# Altium integrated library DG419LEDY-T1-GE4.IntLib: 1 symbol
Pins are listed as number, name and electrical type; pins without a type are passive.

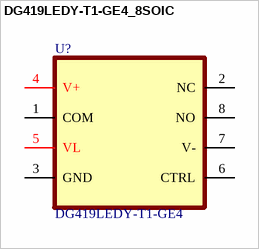
[diagram p0: symbol DG419LEDY-T1-GE4_8SOIC]

## DG419LEDY-T1-GE4_8SOIC
designator U?, comment DG419LEDY-T1-GE4
1 Circuit IC Switch 1:1; Value: DG419LEDY-T1-GE4
footprint SO8-5.5x6.5 (SOIC, 8-Leads, Body 6.5x5.6mm (max), Pitch 1.27mm, IPC Medium Density)
pins: 1 COM, 2 NC (power), 3 GND, 4 V+, 5 VL, 6 CTRL (power), 7 V- (power), 8 NO (power)